# Altium schematic symbol library GL850G-SCH-Library.SchLib: 89 symbols (part 2 of 2)
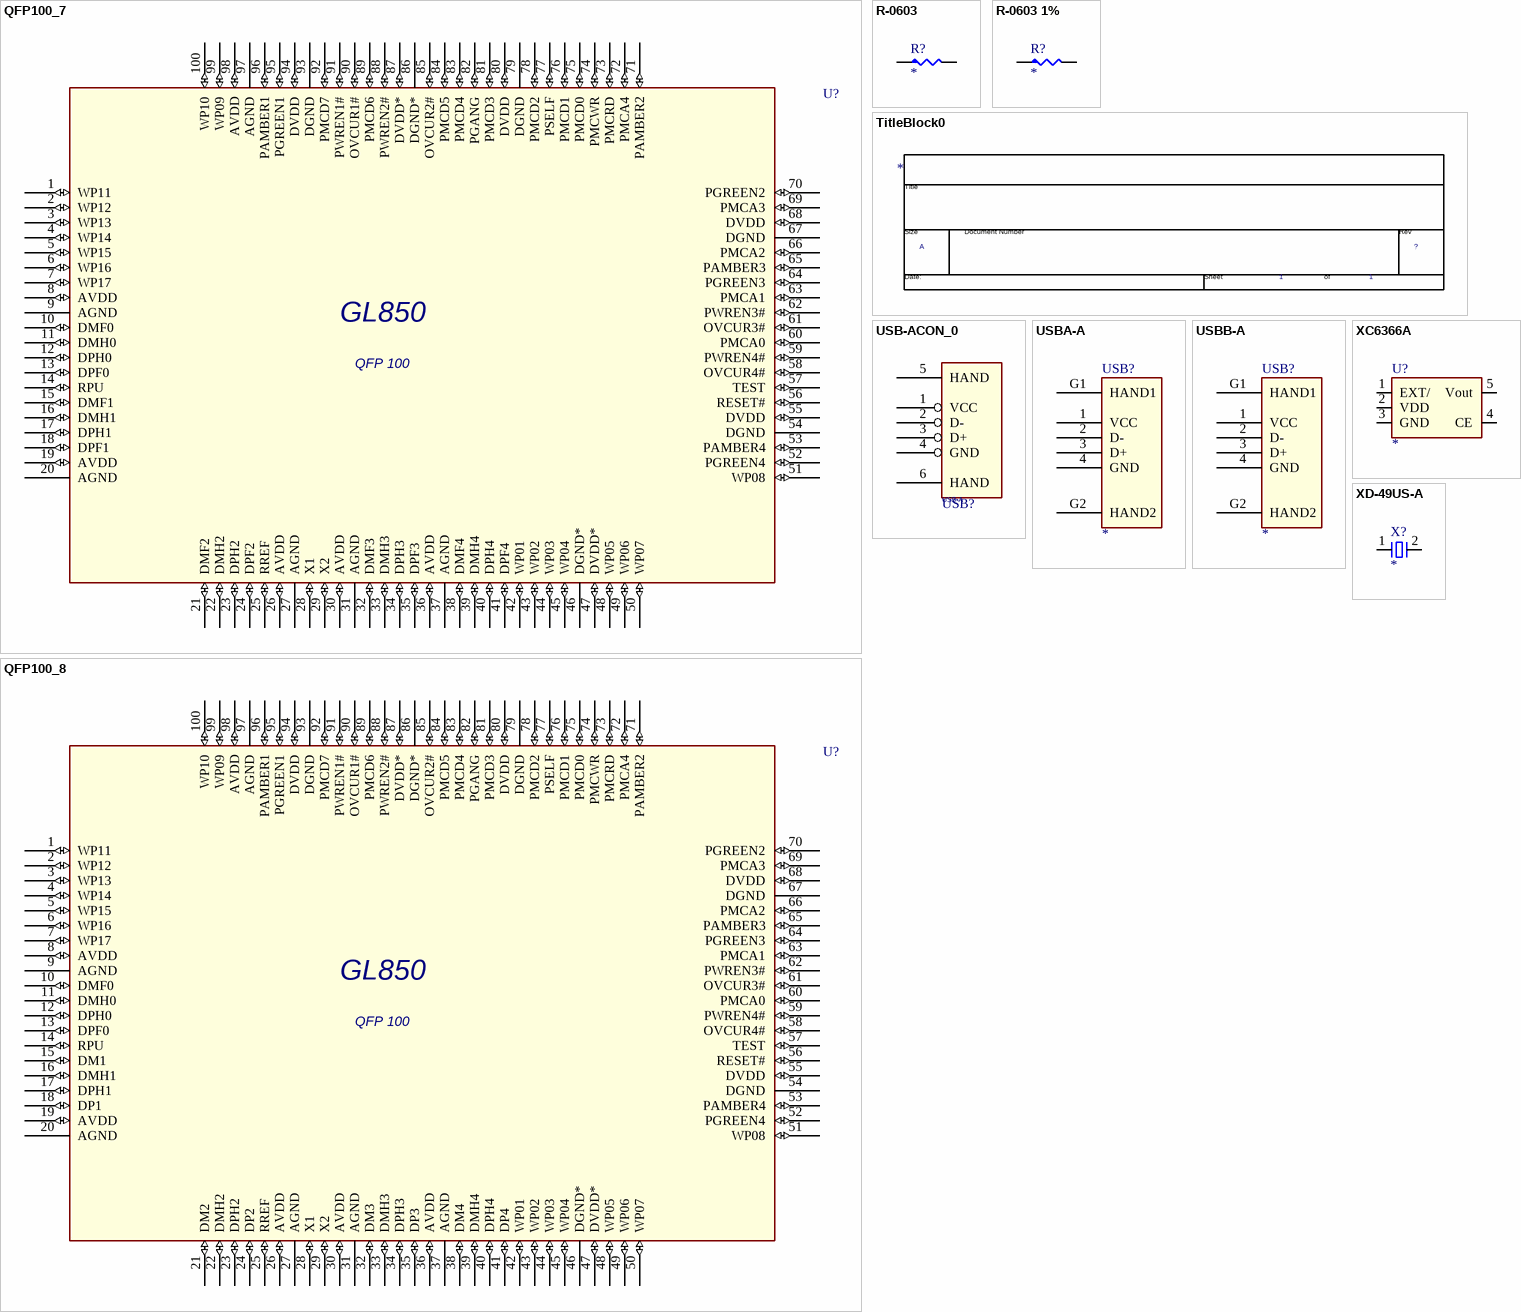
[diagram p13: symbols QFP100_7 to XD-49US-A]

## XD-49US-A
designator X?
footprint XD-49US-A
pins: 1, 2